# Altium footprint library RS_C_POL_THT.PcbLib: 4 footprints
Each footprint in its own frame and in the unit in brackets; x right, y up, seen from the top. Pads: shape width x height; smd on the part's side, far side on the other; paste and mask are expansions set on the pad; w line width, h text height; cw(c..) or ccw(c..) is an arc to the next point about the centre after c.
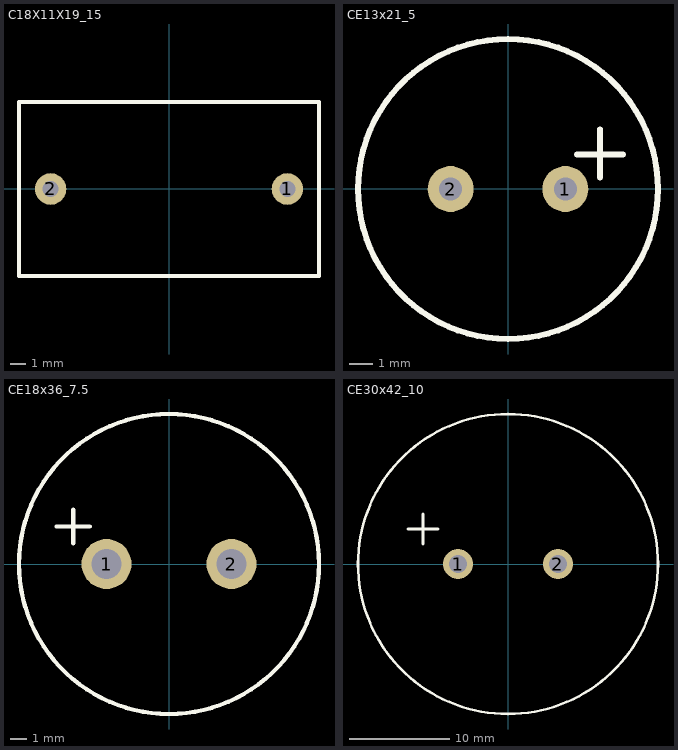
[diagram p0: the footprints below, top view; thin cyan lines are the x and y axes]

## C18X11X19_15 [mm] "MKP 1u/250V"
pads (2):
  round 2 hole 1: 1(7.5,0) 2(-7.5,0)
Top Overlay:
  lines w0.25: -9.5,-5.5 9.5,-5.5 9.5,5.5 -9.5,5.5 -9.5,-5.5
3D body: height -1, standoff -20, extent -9.5,-5.5 9.5,5.5

## CE13x21_5 [mm]
pads (2):
  round 2 hole 1: 1(2.5,0) 2(-2.5,0)
Top Overlay:
  circle w0.254: c0,0 r6.53
  lines w0.254: 3,1.5 5,1.5 ; 4,0.5 4,2.6
3D body: height 25, standoff 2, extent -6.54,-6.54 6.529,6.529

## CE18x36_7.5 [mm]
height 42
pads (2):
  round 3 hole 1.8: 1(-3.75,0) 2(3.75,0)
Top Overlay:
  circle w0.254: c0,0 r9.003
  lines w0.254: -6.75,2.25 -4.75,2.25 ; -5.75,1.25 -5.75,3.25
3D body: height 38, standoff 1, extent -9,-8.75 9,9.25

## CE30x42_10 [mm]
height 42
pads (2):
  round 3 hole 1.8: 1(-5,0) 2(5,0)
Top Overlay:
  circle w0.254: c0,0 r15
  lines w0.254: -10,3.5 -7,3.5 ; -8.5,2 -8.5,5
3D body: height 1, standoff -4, extent 4.405,-0.599 5.6,0.599
3D body: height 1, standoff -4, extent -5.598,-0.599 -4.402,0.599
3D body: height 44, standoff 1, extent -14.7,-15 15.3,15